# EAGLE library part ADM1276* (library Analog Devices)
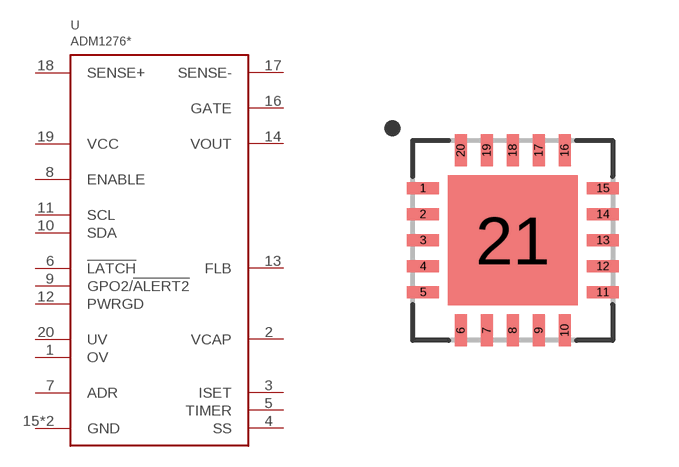
[diagram p49: symbol with the pads of QFN20_0.65P; footprint QFN20_0.65P]

Designator prefix U

## ADM1276-3  [QFN20_0.65P]
1  OV
2  VCAP
3  ISET
4  SS
5  TIMER
6  !LATCH
7  ADR
8  ENABLE
9  GPO2/!ALERT2
10  SDA
11  SCL
12  PWRGD
13  FLB
14  VOUT
15  GND
16  GATE
17  SENSE-
18  SENSE+
19  VCC
20  UV
21  GND

## Footprint QFN20_0.65P (pad centres in mm)
smd 0.8 x 0.3: 1 -2.25,1.3; 2 -2.25,0.65; 3 -2.25,0; 4 -2.25,-0.65; 5 -2.25,-1.3; 11 2.25,-1.3; 12 2.25,-0.65; 13 2.25,0; 14 2.25,0.65; 15 2.25,1.3
smd 0.3 x 0.8: 6 -1.3,-2.25; 7 -0.65,-2.25; 8 0,-2.25; 9 0.65,-2.25; 10 1.3,-2.25; 16 1.3,2.25; 17 0.65,2.25; 18 0,2.25; 19 -0.65,2.25; 20 -1.3,2.25
smd 3.25 x 3.25: 21 0,0